# Altium footprint library PCB1.PcbLib: 11 footprints
Each footprint in its own frame and in the unit in brackets; x right, y up, seen from the top. Pads: shape width x height; smd on the part's side, far side on the other; paste and mask are expansions set on the pad; w line width, h text height; cw(c..) or ccw(c..) is an arc to the next point about the centre after c.
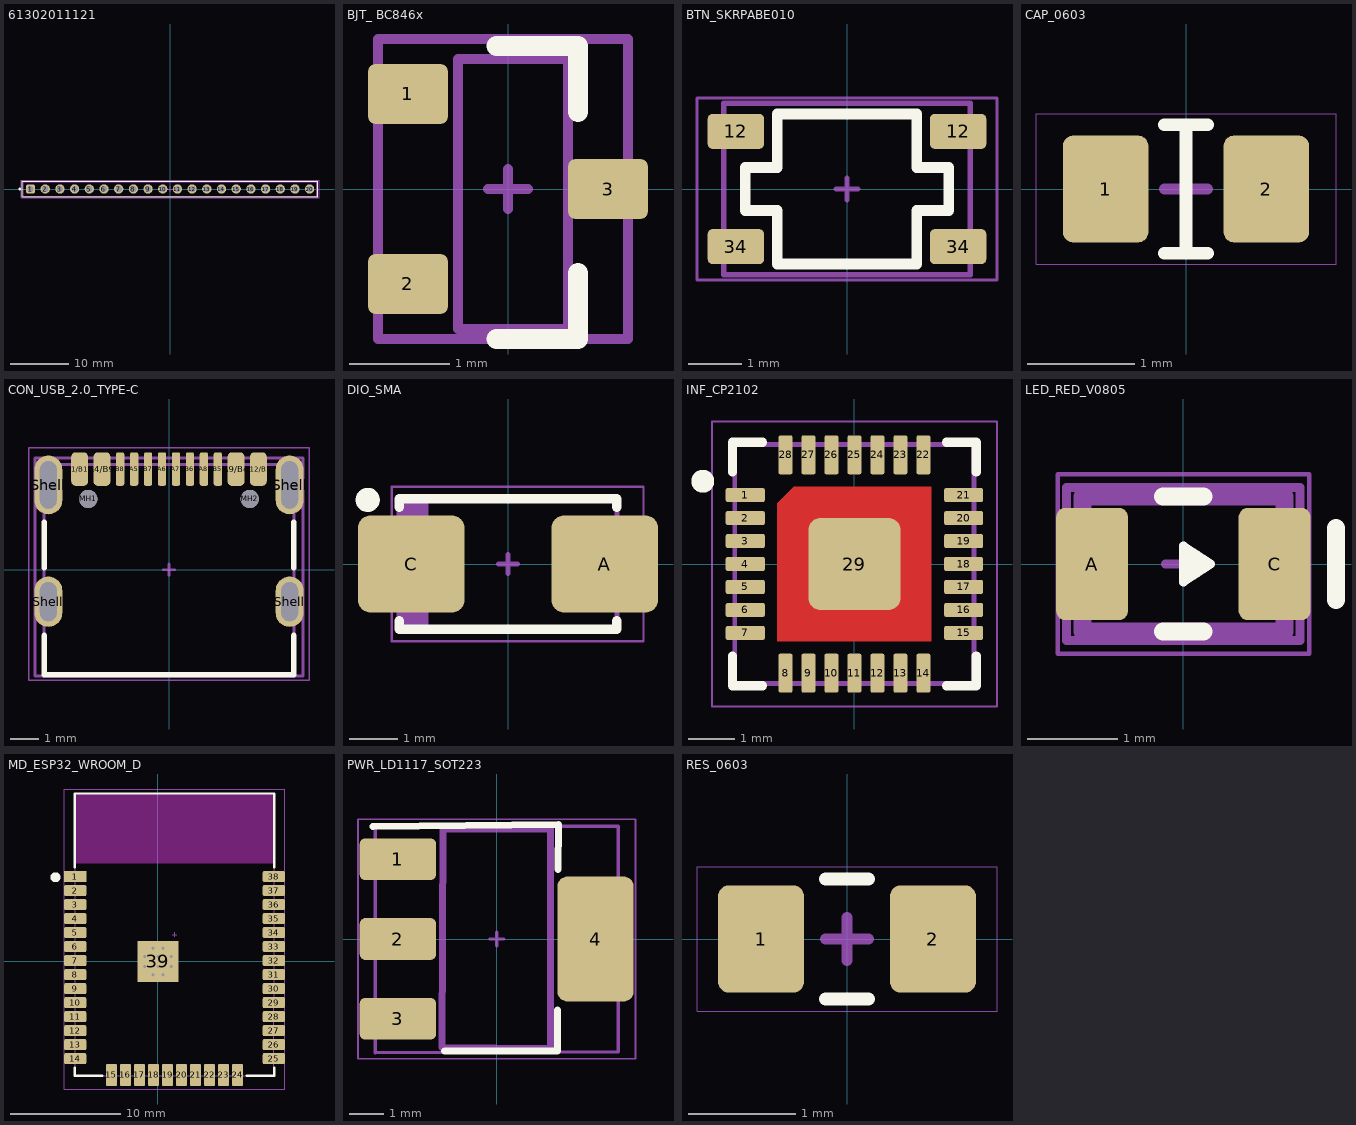
[diagram p0: the footprints below, top view; thin cyan lines are the x and y axes]

## 61302011121 [mm]
pads (20):
  rrect50% 1.6x1.6 hole 1.1: 1(-24.13,0)
  round 1.6 hole 1.1: 2(-21.59,0) 3(-19.05,0) 4(-16.51,0) 5(-13.97,0) 6(-11.43,0) 7(-8.89,0) 8(-6.35,0) 9(-3.81,0) 10(-1.27,0) 11(1.27,0) 12(3.81,0) 13(6.35,0) 14(8.89,0) 15(11.43,0) 16(13.97,0) 17(16.51,0) 18(19.05,0) 19(21.59,0) 20(24.13,0)
Top Overlay:
  circle w0.25: c-26,0 r0.125
  lines w0.2: -25.55,-1.345 -25.55,1.345 25.55,1.345 25.55,-1.345 -25.55,-1.345
Top Component Center:
  lines w0.05: -0.5,0 0.5,0 ; 0,-0.5 0,0.5
Top Designator:
  text ".Designator" at -7.498,-0.5 h1.5
Top Component Outline:
  lines w0.1: -25.4,-1.27 -25.4,1.27 25.4,1.27 25.4,-1.27 -25.4,-1.27
Top Courtyard:
  lines w0.05: -25.75,-1.545 25.75,-1.545 25.75,1.545 -25.75,1.545 -25.75,-1.545
3D body "61302011121.stp": height 8.57, standoff -2.97, extent -25.4,-1.27 25.4,1.27

## BJT_ BC846x [mm]
pads (3):
  rrect25% 0.8x0.6 smd mask+0.05: 1(-1,0.95) 2(-1,-0.95) 3(1,0)
Top Overlay:
  lines w0.2: -0.115,-1.5 0.7,-1.5 0.7,-0.84 ; -0.115,1.43 0.7,1.43 0.7,0.77
  text "." at -0.949,1.372 h2
Top Component Center:
  lines w0.1: -0.2,0 0,0 ; 0,-0.2 0,0 ; 0,0.2 0,0 ; 0.2,0 0,0
Top Assembly:
  lines w0.1: -1.3,-1.5 1.2,-1.5 1.2,1.5 -1.3,1.5 -1.3,-1.5
Top Designator:
  text ".Designator" at -7.618,-0.233 h1.52
Top 3D Body:
  lines w0.1: -0.5,-1.4 0.6,-1.4 0.6,1.3 -0.5,1.3 -0.5,-1.4
Top Courtyard:
  lines w0.05: -1.3,-1.5 1.2,-1.5 1.2,1.5 -1.3,1.5 -1.3,-1.5
3D body "SOT23_BC846B_NEX.step": height 1.09, standoff 0, extent -1.245,-1.499 1.245,1.499

## BTN_SKRPABE010 [mm]
pads (4):
  rrect25% 1.05x0.65 smd: 12(-2.075,1.075) 12(2.075,1.075) 34(-2.075,-1.075) 34(2.075,-1.075)
Top Overlay:
  lines w0.2: -1.9,-0.4 -1.3,-0.4 -1.3,-1.4 1.3,-1.4 1.3,-0.4 1.9,-0.4 1.9,0.4 1.3,0.4 1.3,1.4 -1.3,1.4 -1.3,0.4 -1.9,0.4 -1.9,-0.4
Top Component Center:
  lines w0.1: -0.2,0 0,0 ; 0,-0.2 0,0 ; 0,0.2 0,0 ; 0.2,0 0,0
Top Assembly:
  lines w0.1: -2.3,-1.6 2.3,-1.6 2.3,1.6 -2.3,1.6 -2.3,-1.6
Top Designator:
  text ".Designator" at -7.618,-0.508 h1.52
Top 3D Body:
  lines w0.05: -2.8,-1.7 -2.8,1.7 2.8,1.7 2.8,-1.7 -2.8,-1.7
Top Courtyard:
  lines w0.05: -2.8,-1.7 1,-1.7 2.8,-1.7 2.8,1.7 -1.7,1.7 -2.8,1.7 -2.8,-1.7
3D body "SKRPANE010.step": height 2.51, standoff 0.01, extent -2.3,-1.6 2.3,1.6

## CAP_0603 [mm]
pads (2):
  rrect25% 0.8x1 smd: 1(-0.75,0) 2(0.75,0)
Top Overlay:
  lines w0.12: -0.2,-0.6 0,-0.6 ; -0.2,0.6 0,0.6 ; 0.2,-0.6 0,-0.6 ; 0.2,0.6 0,0.6 ; 0,-0.6 0,0.6
Top Component Center:
  lines w0.1: -0.2,0 0,0 ; 0,-0.2 0,0 ; 0,0.2 0,0 ; 0.2,0 0,0
Top Designator:
  text ".Designator" at -4.998,-0.333 h1
Top Courtyard:
  lines w0.01: -1.4,-0.7 -1.4,0.7 0,0.7 1.4,0.7 1.4,-0.7 0,-0.7 -1.4,-0.7
3D body "CAPC-0603-T0.9-BN.stp": height 0.9, standoff 0, extent -0.854,-0.427 0.846,0.473

## CON_USB_2.0_TYPE-C [mm]
pads (18):
  rrect50% 0.6x1.2 smd: A1/B12(-3.2,3.605) A4/B9(-2.4,3.605) A9/B4(2.4,3.605) A12/B1(3.2,3.605)
  rrect50% 0.3x1.2 smd: A5(-1.25,3.605) A6(-0.25,3.605) A7(0.25,3.605) A8(1.25,3.605) B5(1.75,3.605) B6(0.75,3.605) B7(-0.75,3.605) B8(-1.75,3.605)
  round 0.65 hole 0.65 unplated: MH1(-2.89,2.535) MH2(2.89,2.535)
  oval 1x1.8 hole 0.6 slot 1.4 at 90 deg: Shell(-4.32,-1.145) Shell(4.32,-1.145)
  oval 1x2.1 hole 0.6 slot 1.7 at 90 deg: Shell(-4.32,3.035) Shell(4.32,3.035)
Top Overlay:
  lines w0.2: -4.47,-2.355 -4.47,-3.765 4.47,-3.765 4.47,-2.355 ; -4.47,0.065 -4.47,1.695 ; 4.47,0.065 4.47,1.695
Top Component Center:
  lines w0.1: -0.2,0 0,0 ; 0,-0.2 0,0 ; 0,0.2 0,0 ; 0.2,0 0,0
Top Assembly:
  lines w0.1: -4.8,-3.8 4.8,-3.8 4.8,4 -4.8,4 -4.8,-3.8
Top Designator:
  text ".Designator" at -7.498,-0.5 h1.5
Top 3D Body:
  lines w0.1: -4.47,-3.765 -4.47,3.765 4.47,3.765 4.47,-3.765 -4.47,-3.765
Top Courtyard:
  lines w0.05: -5.02,-3.965 5.02,-3.965 5.02,4.375 -5.02,4.375 -5.02,-3.965
3D body "629722000214.stp": height 3.33, standoff -0.83, extent -4.79,-3.765 4.79,3.945

## DIO_SMA [mm]
pads (2):
  rrect25% 2.2x2 smd: A(2,0) C(-2,0)
Top Overlay:
  circle w0.25: c-2.9,1.325 r0.125
  lines w0.2: -2.25,-1.175 -2.25,-1.35 2.25,-1.35 2.25,-1.175 ; -2.25,1.175 -2.25,1.35 2.25,1.35 2.25,1.175
Top Component Center:
  lines w0.1: -0.2,0 0,0 ; 0,-0.2 0,0 ; 0,0.2 0,0 ; 0.2,0 0,0
Bottom Component Center:
  text ".Designator" at -7.642,-0.508 h1.52
Top Designator:
  text ".Designator" at -7.642,-0.508 h1.52
Top 3D Body:
  rectangle: -2.25,-1.35 -1.645,1.35
  lines w0.1: -2.25,-1.35 -2.25,1.35 2.25,1.35 2.25,-1.35 -2.25,-1.35
Top Courtyard:
  lines w0.05: -2.4,-1.6 -2.4,1.6 0,1.6 2.8,1.6 2.8,-1.6 -2.4,-1.6
3D body "Diode SMA.stp": height 2.41, standoff 0, extent -2.613,-1.461 2.667,1.459

## INF_CP2102 [mm]
pads (29):
  rrect25% 0.85x0.3 smd: 1(-2.375,1.5) 2(-2.375,1) 3(-2.375,0.5) 4(-2.375,0) 5(-2.375,-0.5) 6(-2.375,-1) 7(-2.375,-1.5) 15(2.375,-1.5) 16(2.375,-1) 17(2.375,-0.5) 18(2.375,0) 19(2.375,0.5) 20(2.375,1) 21(2.375,1.5)
  rrect25% 0.3x0.85 smd: 8(-1.5,-2.375) 9(-1,-2.375) 10(-0.5,-2.375) 11(0,-2.375) 12(0.5,-2.375) 13(1,-2.375) 14(1.5,-2.375) 22(1.5,2.375) 23(1,2.375) 24(0.5,2.375) 25(0,2.375) 26(-0.5,2.375) 27(-1,2.375) 28(-1.5,2.375)
  rrect25% 2x2 smd: 29(0,0)
Top Layer:
  region: -1.325,1.675 1.675,1.675 1.675,-1.675 -1.675,-1.675 -1.675,1.325
Top Overlay:
  circle w0.25: c-3.3,1.8 r0.125
  lines w0.2: -2.65,-2 -2.65,-2.65 -2,-2.65 ; -2.65,2 -2.65,2.65 -2,2.65 ; 2,-2.65 2.65,-2.65 2.65,-2 ; 2,2.65 2.65,2.65 2.65,2
Top Component Center:
  lines w0.1: -0.2,0 0,0 ; 0,-0.2 0,0 ; 0,0.2 0,0 ; 0.2,0 0,0
Top Assembly:
  lines w0.1: -2.6,-2.6 2.6,-2.6 2.6,2.6 -1.8,2.6 -2.6,2.6 -2.6,-2.6
Top Designator:
  text ".Designator" at -7.83,-0.508 h1.52
Top Courtyard:
  lines w0.05: -3.1,-3.1 3.1,-3.1 3.1,3.1 -3.1,3.1 -3.1,-3.1
3D body "IC_Silicon_Labs_CP2102N-A02-GQFN28R_eec.STEP": height 0.25, standoff 0, extent -2.975,-2.975 2.975,2.975

## LED_RED_V0805 [mm]
pads (2):
  rrect25% 0.8x1.25 smd paste+0 mask+0: A(-1.016,0) C(1.016,0)
Top Overlay:
  lines w0.1: 0.15,0.1 0.15,-0.1 0,0 ; 0,0 0,0.2 0.3,0 0,-0.2 0,0
  lines w0.2: -0.225,-0.75 0.225,-0.75 ; -0.225,0.75 0.225,0.75 ; 0.054,-0.092 0.086,0.066 0.15,0 ; 1.7,-0.4 1.7,0.4
Top Component Center:
  lines w0.1: -0.2,0 0,0 ; 0,-0.2 0,0 ; 0,0.2 0,0 ; 0.2,0 0,0
Top Assembly:
  lines w0.1: -1.3,-0.85 1.3,-0.85 1.3,0.85 -1.3,0.85 -1.3,-0.85
Top Designator:
  text ".Designator" at -7.43,-0.508 h1.52
Top 3D Body:
  lines w0.2: -1.125,-0.75 -1.125,0.75 1.125,0.75 1.125,-0.75 -1.125,-0.75
Top Courtyard:
  lines w0.05: -1.4,-1 -1.4,1 1.4,1 1.4,-1 -1.4,-1
3D body "Diode_Lumex_SML-LX0805SRC-TR_eec.STEP": height 0.25, standoff 0, extent -1.3,-0.85 1.3,0.85

## MD_ESP32_WROOM_D [mm]
pads (39):
  rect 2x1 smd paste+0 mask+0: 1(-7.5,7.7)
  rrect25% 2x1 smd paste+0 mask+0: 2(-7.5,6.43) 3(-7.5,5.16) 4(-7.5,3.89) 5(-7.5,2.62) 6(-7.5,1.35) 7(-7.5,0.08) 8(-7.5,-1.19) 9(-7.5,-2.46) 10(-7.5,-3.73) 11(-7.5,-5) 12(-7.5,-6.27) 13(-7.5,-7.54) 14(-7.5,-8.81) 25(10.5,-8.81) 26(10.5,-7.54) 27(10.5,-6.27) 28(10.5,-5) 29(10.5,-3.73) 30(10.5,-2.46) 31(10.5,-1.19) 32(10.5,0.08) 33(10.5,1.35) 34(10.5,2.62) 35(10.5,3.89) 36(10.5,5.16) 37(10.5,6.43) 38(10.5,7.7)
  rrect25% 1x2 smd paste+0 mask+0: 15(-4.215,-10.29) 16(-2.945,-10.29) 17(-1.675,-10.29) 18(-0.405,-10.29) 19(0.865,-10.29) 20(2.135,-10.29) 21(3.405,-10.29) 22(4.675,-10.29) 23(5.945,-10.29) 24(7.215,-10.29)
  rect 3.7x3.7 smd paste+0 mask+0: 39(0,0)
via 0,0.45 diameter 0.381 hole 0.3
via -0.45,0 diameter 0.381 hole 0.3
via 0,-0.45 diameter 0.381 hole 0.3
via 0.45,0 diameter 0.381 hole 0.3
via 0.45,1.2 diameter 0.381 hole 0.3
via -0.45,1.2 diameter 0.381 hole 0.3
via 0.45,-1.2 diameter 0.381 hole 0.3
via -0.45,-1.2 diameter 0.381 hole 0.3
via -1.2,-0.45 diameter 0.381 hole 0.3
via -1.2,0.45 diameter 0.381 hole 0.3
via 1.2,0.45 diameter 0.381 hole 0.3
via 1.2,-0.45 diameter 0.381 hole 0.3
Top Overlay:
  circle w0.5: c-9.3,7.64 r0.2
  lines w0.2: -7.55,-9.635 -7.55,-10.36 -5.04,-10.36 ; -7.55,8.525 -7.55,15.24 10.55,15.24 10.55,8.525 ; 8.04,-10.36 10.55,-10.36 10.55,-9.635
Keep-Out Layer:
  rectangle: -7.5,8.89 10.5,15.19
  rectangle: -7.5,8.89 10.5,15.19
Top Component Center:
  lines w0.1: 1.3,2.438 1.5,2.438 ; 1.5,2.44 1.5,2.64 ; 1.502,2.24 1.502,2.44 1.702,2.44
Top Assembly:
  lines w0.1: -7.5,-10.36 10.5,-10.36 10.6,15.24 -7.5,15.24 -7.5,-9.56 -7.5,-10.36
Top Designator:
  text ".Designator" at -6.73,1.532 h1.52
Top Courtyard:
  lines w0.05: -8.5,-11.56 -8.5,15.64 10.7,15.64 11.1,15.64 11.5,15.64 11.5,-11.56 -8.5,-11.56
3D body "UNK_Espressif_Systems_ESP32-WROOM-32D_eec.STEP": height 3.2, standoff 0, extent -7.5,-10.31 10.5,15.19

## PWR_LD1117_SOT223 [mm]
pads (4):
  rrect25% 2.2x1.2 smd: 1(-2.85,2.3) 2(-2.85,0) 3(-2.85,-2.3)
  rrect25% 2.2x3.6 smd: 4(2.85,0)
Top Overlay:
  lines w0.2: -3.575,3.25 1.775,3.3 1.769,2.001 ; -1.5,-3.225 1.75,-3.225 1.75,-2.05
Top Component Center:
  lines w0.1: -0.2,0 0,0 ; 0,-0.2 0,0 ; 0,0.2 0,0 ; 0.2,0 0,0
Top Assembly:
  lines w0.1: -3.5,-3.275 -3.5,3.25 3.5,3.25 3.5,-3.25 -3.5,-3.275
Top Designator:
  text ".Designator" at -7.618,-0.508 h1.52
Top 3D Body:
  lines w0.2: -1.575,-3.125 -1.55,3.175 1.55,3.175 1.55,-3.15 -1.575,-3.125
Top Courtyard:
  lines w0.05: -4,-3.45 4,-3.45 4,3.45 -4,3.45 -4,-3.45
3D body "step_temp.STEP": height 1.8, standoff 0, extent -3.499,-3.251 3.499,3.249

## RES_0603 [mm]
pads (2):
  rrect25% 0.8x1 smd: 1(-0.8,0) 2(0.8,0)
Top Overlay:
  lines w0.12: -0.2,-0.559 0,-0.559 0.2,-0.559 ; -0.2,0.559 0,0.559 0.2,0.559
Top Component Center:
  lines w0.1: -0.2,0 0,0 ; 0,-0.2 0,0 ; 0,0.2 0,0 ; 0.2,0 0,0
Top Designator:
  text ".Designator" at -4.998,-0.333 h1
Top Courtyard:
  lines w0.01: -1.397,-0.675 1.397,-0.675 1.397,0.675 -1.397,0.675 -1.397,-0.675
3D body "RESC-0603 v1.step": height 0.56, standoff 0, extent -0.859,-0.468 0.841,0.432